# Altium schematic symbol library NPN-B1E2C3.SchLib: 1 symbol
Pins are listed as number, name and electrical type; pins without a type are passive.

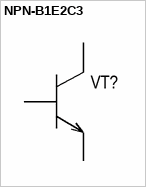
[diagram p0: symbol NPN-B1E2C3]

## NPN-B1E2C3
designator VT?  (value not drawn)
pins: 1, 2, 3